# EAGLE library part NJW4191 (library my_ic)
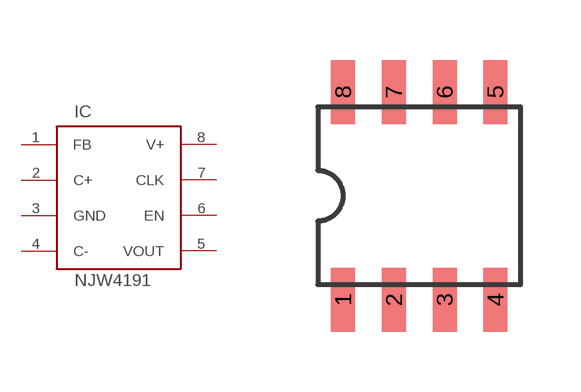
[diagram p7: symbol with the pads of SOP8; footprint SOP8]

Designator prefix IC

## NJW4191  [SOP8]
1  FB  in
2  C+  pas
3  GND  pwr
4  C-  pas
5  VOUT  out
6  EN  in
7  CLK
8  V+  pwr

## Footprint SOP8 (pad centres in mm)
SOP8 Source: http://www.rohm.com/products/databook/motor/pdf/bd623x_series-e.pdf
smd 0.6 x 1.6: 1 -1.905,-2.6; 2 -0.635,-2.6; 3 0.635,-2.6; 4 1.905,-2.6; 5 1.905,2.6; 6 0.635,2.6; 7 -0.635,2.6; 8 -1.905,2.6